# EAGLE library part TDA0161DP (library ST Microelectronics)
Proximity Detectors
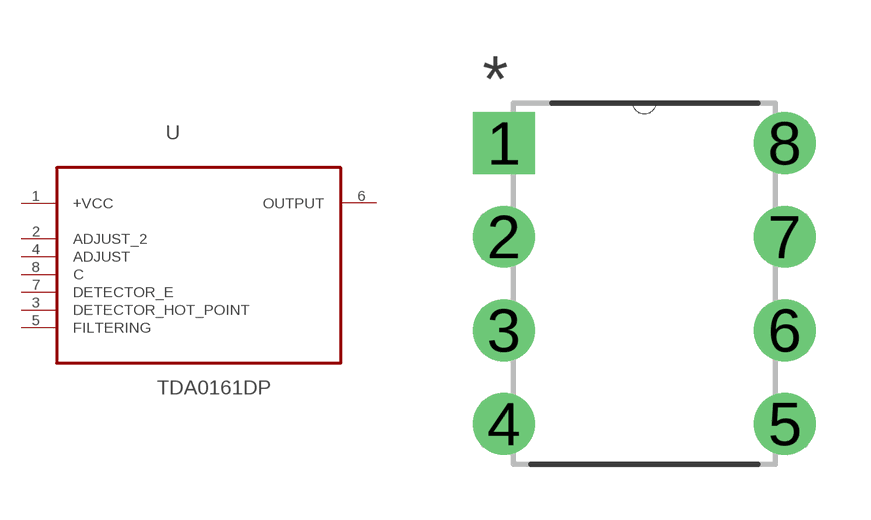
[diagram p387: symbol with the pads of DIP254P762X480-8; footprint DIP254P762X480-8]

Designator prefix U

## TDA0161DP (MPN: TDA0161DP; OC_FARNELL: 1467823; OC_NEWARK: 89K1034; PACKAGE: 8-DIP; SUPPLIER: STMICROELECTRONICS)  [DIP254P762X480-8]
1  +VCC  pwr
2  ADJUST_2  in
3  DETECTOR_HOT_POINT  in
4  ADJUST  in
5  FILTERING  in
6  OUTPUT  out
7  DETECTOR_E  in
8  C  pas

## Footprint DIP254P762X480-8 (pad centres in mm)
drill 1.118 square: 1 -7.62,7.62
drill 1.118: 2 -7.62,5.08; 3 -7.62,2.54; 4 -7.62,0; 5 0,0; 6 0,2.54; 7 0,5.08; 8 0,7.62